# Altium schematic symbol library analog_dac.SchLib: 8 symbols
Pins are listed as number, name and electrical type; pins without a type are passive.

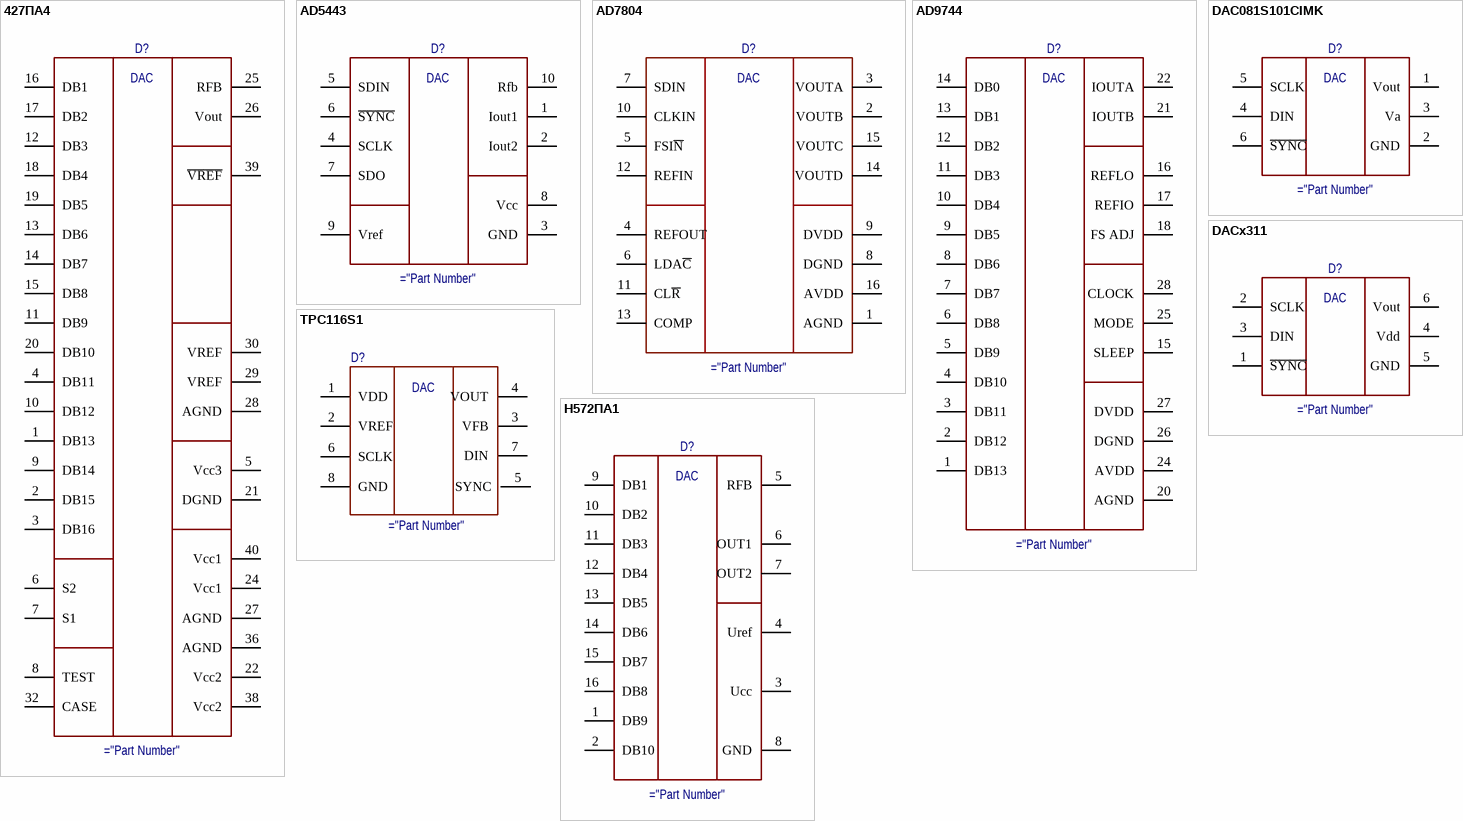
[diagram p0: symbols 427ПА4 to Н572ПА1]

## 427ПА4
designator D?
DAC 16-bit
pins: 1 DB13, 2 DB15, 3 DB16, 4 DB11, 5 Vcc3, 6 S2, 7 S1, 8 TEST, 9 DB14, 10 DB12, 11 DB9, 12 DB3, 13 DB6, 14 DB7, 15 DB8, 16 DB1, 17 DB2, 18 DB4, 19 DB5, 20 DB10, 21 DGND, 22 Vcc2, 23 hidden, 24 Vcc1, 25 RFB, 26 Vout, 27 AGND, 28 AGND, 29 VREF, 30 VREF, 31 hidden, 32 CASE, 33 hidden, 34 hidden, 35 hidden, 36 AGND, 37 hidden, 38 Vcc2, 39 ~{VREF}, 40 Vcc1
text: DAC

## AD5443
designator D?
DAC 12-bit
pins: 1 Iout1, 2 Iout2, 3 GND, 4 SCLK, 5 SDIN, 6 ~{SYNC}, 7 SDO, 8 Vcc, 9 Vref, 10 Rfb
text: DAC

## AD7804
designator D?
DAC AD7804, 4-ch, 10-bit
pins: 1 AGND, 2 VOUTB, 3 VOUTA, 4 REFOUT, 5 FSI~{N}, 6 LDA~{C}, 7 SDIN, 8 DGND, 9 DVDD, 10 CLKIN, 11 CL~{R}, 12 REFIN, 13 COMP, 14 VOUTD, 15 VOUTC, 16 AVDD
text: DAC

## AD9744
designator D?
DAC 16-bit with Current Out
pins: 1 DB13, 2 DB12, 3 DB11, 4 DB10, 5 DB9, 6 DB8, 7 DB7, 8 DB6, 9 DB5, 10 DB4, 11 DB3, 12 DB2, 13 DB1, 14 DB0, 15 SLEEP, 16 REFLO, 17 REFIO, 18 FS ADJ, 19 NC hidden, 20 AGND, 21 IOUTB, 22 IOUTA, 23 RESERVED hidden, 24 AVDD, 25 MODE, 26 DGND, 27 DVDD, 28 CLOCK
text: DAC

## DAC081S101CIMK
designator D?
DAC 8-bit with Rail-to-Rail Out
pins: 1 Vout, 2 GND, 3 Va, 4 DIN, 5 SCLK, 6 ~{SYNC}
text: DAC

## DACx311
designator D?
DAC 8,10,12-bit, with Rail-to-Rail Out
pins: 1 ~{SYNC}, 2 SCLK, 3 DIN, 4 Vdd, 5 GND, 6 Vout
text: DAC

## TPC116S1
designator D?
DAC TPC116S1-VR
pins: 1 VDD, 2 VREF, 3 VFB, 4 VOUT, 5 SYNC, 6 SCLK, 7 DIN, 8 GND
text: DAC

## Н572ПА1
designator D?
DAC 10-bit
pins: 1 DB9, 2 DB10, 3 Ucc, 4 Uref, 5 RFB, 6 OUT1, 7 OUT2, 8 GND, 9 DB1, 10 DB2, 11 DB3, 12 DB4, 13 DB5, 14 DB6, 15 DB7, 16 DB8, 23 hidden, 31 hidden, 33 hidden, 34 hidden, 35 hidden, 37 hidden
text: DAC